# EAGLE library part PIC24SURFBOARDRECEPTACLE (library My Library-adm)
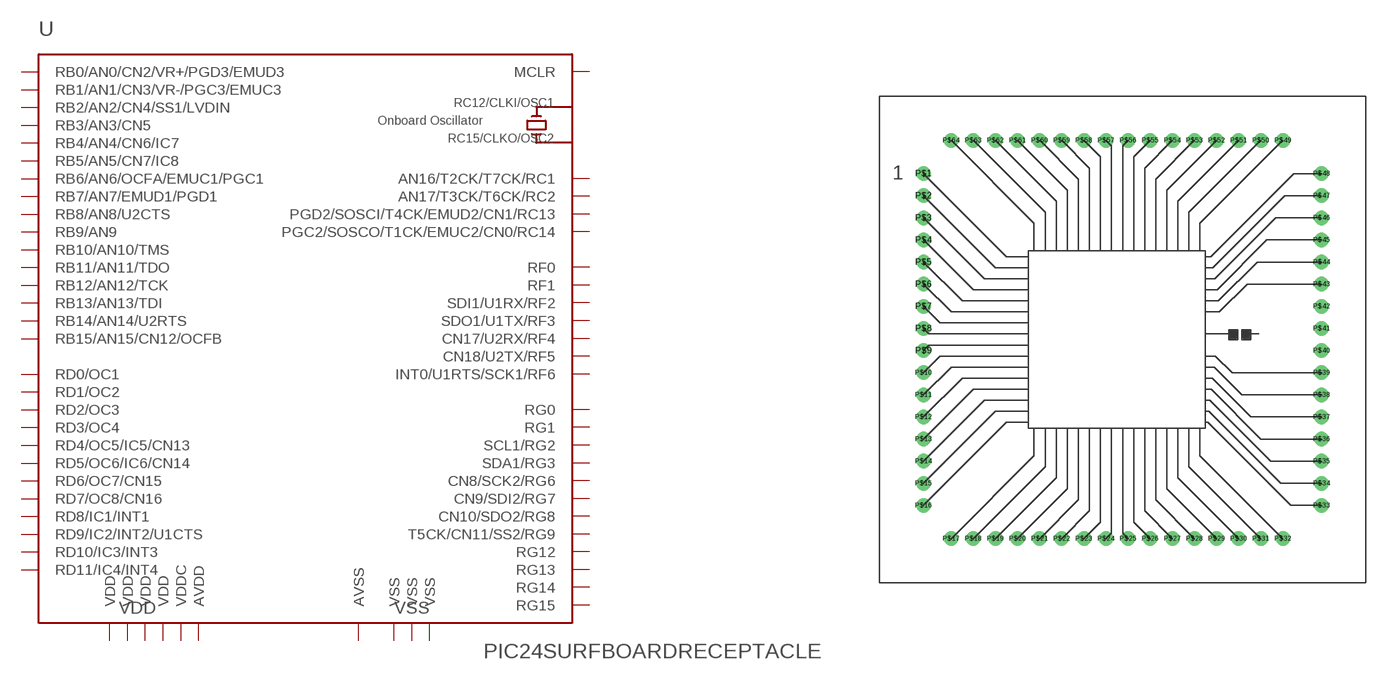
[diagram p21: symbol with the pads of PIC24SURFBOARDACTUAL; footprint PIC24SURFBOARDACTUAL]

Designator prefix -

## PIC24SURFBOARDRECEPTACLE  [PIC24SURFBOARDACTUAL]
P$1  RG15
P$2  AN16/T2CK/T7CK/RC1
P$3  AN17/T3CK/T6CK/RC2
P$4  CN8/SCK2/RG6
P$5  CN9/SDI2/RG7
P$6  CN10/SDO2/RG8
P$7  MCLR  in
P$8  T5CK/CN11/SS2/RG9
P$9  VSS  pwr
P$10  VDD  pwr
P$11  RB5/AN5/CN7/IC8
P$12  RB4/AN4/CN6/IC7
P$13  RB3/AN3/CN5
P$14  RB2/AN2/CN4/SS1/LVDIN
P$15  RB1/AN1/CN3/VR-/PGC3/EMUC3
P$16  RB0/AN0/CN2/VR+/PGD3/EMUD3
P$17  RB6/AN6/OCFA/EMUC1/PGC1
P$18  RB7/AN7/EMUD1/PGD1
P$19  AVDD  pwr
P$20  AVSS  pwr
P$21  RB8/AN8/U2CTS
P$22  RB9/AN9
P$23  RB10/AN10/TMS
P$24  RB11/AN11/TDO
P$25  VSS  pwr
P$26  VDD  pwr
P$27  RB12/AN12/TCK
P$28  RB13/AN13/TDI
P$29  RB14/AN14/U2RTS
P$30  RB15/AN15/CN12/OCFB
P$31  CN17/U2RX/RF4
P$32  CN18/U2TX/RF5
P$33  SDO1/U1TX/RF3
P$34  SDI1/U1RX/RF2
P$35  INT0/U1RTS/SCK1/RF6
P$36  SDA1/RG3
P$37  SCL1/RG2
P$38  VDD  pwr
P$41  VSS  pwr
P$42  RD8/IC1/INT1
P$43  RD9/IC2/INT2/U1CTS
P$44  RD10/IC3/INT3
P$45  RD11/IC4/INT4
P$46  RD0/OC1
P$47  PGD2/SOSCI/T4CK/EMUD2/CN1/RC13
P$48  PGC2/SOSCO/T1CK/EMUC2/CN0/RC14
P$49  RD1/OC2
P$50  RD2/OC3
P$51  RD3/OC4
P$52  RD4/OC5/IC5/CN13
P$53  RD5/OC6/IC6/CN14
P$54  RD6/OC7/CN15
P$55  RD7/OC8/CN16
P$56  VDDC  pwr
P$57  VDD  pwr
P$58  RF0
P$59  RF1
P$60  RG1
P$61  RG0
P$62  RG14
P$63  RG12
P$64  RG13

## Footprint PIC24SURFBOARDACTUAL (pad centres in mm)
drill 0.8: P$1 -18,15; P$2 -18,13; P$3 -18,11; P$4 -18,9; P$5 -18,7; P$6 -18,5; P$7 -18,3; P$8 -18,1; P$9 -18,-1; P$10 -18,-3; P$11 -18,-5; P$12 -18,-7; P$13 -18,-9; P$14 -18,-11; P$15 -18,-13; P$16 -18,-15; P$17 -15.5,-18; P$18 -13.5,-18; P$19 -11.5,-18; P$20 -9.5,-18; P$21 -7.5,-18; P$22 -5.5,-18; P$23 -3.5,-18; P$24 -1.5,-18; P$25 0.5,-18; P$26 2.5,-18; P$27 4.5,-18; P$28 6.5,-18; P$29 8.5,-18; P$30 10.5,-18; P$31 12.5,-18; P$32 14.5,-18; P$33 18,-15; P$34 18,-13; P$35 18,-11; P$36 18,-9; P$37 18,-7; P$38 18,-5; P$39 18,-3; P$40 18,-1; P$41 18,1; P$42 18,3; P$43 18,5; P$44 18,7; P$45 18,9; P$46 18,11; P$47 18,13; P$48 18,15; P$49 14.5,18; P$50 12.5,18; P$51 10.5,18; P$52 8.5,18; P$53 6.5,18; P$54 4.5,18; P$55 2.5,18; P$56 0.5,18; P$57 -1.5,18; P$58 -3.5,18; P$59 -5.5,18; P$60 -7.5,18; P$61 -9.5,18; P$62 -11.5,18; P$63 -13.5,18; P$64 -15.5,18